# Altium integrated library ERA3AEB301V.IntLib: 1 symbol
Pins are listed as number, name and electrical type; pins without a type are passive.

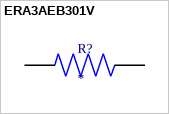
[diagram p0: symbol ERA3AEB301V]

## ERA3AEB301V
designator R?
MP: ERA3AEB301V; Package: None; Price: None; Availability: Unavailable; Value: *
footprint RES_ERA3AEB301V
pins: 1, 2